# Altium footprint library 接口.PCBLIB: 266 footprints (part 14 of 17)
Each footprint in its own frame and in the unit in brackets; x right, y up, seen from the top. Pads: shape width x height; smd on the part's side, far side on the other; paste and mask are expansions set on the pad; w line width, h text height; cw(c..) or ccw(c..) is an arc to the next point about the centre after c.
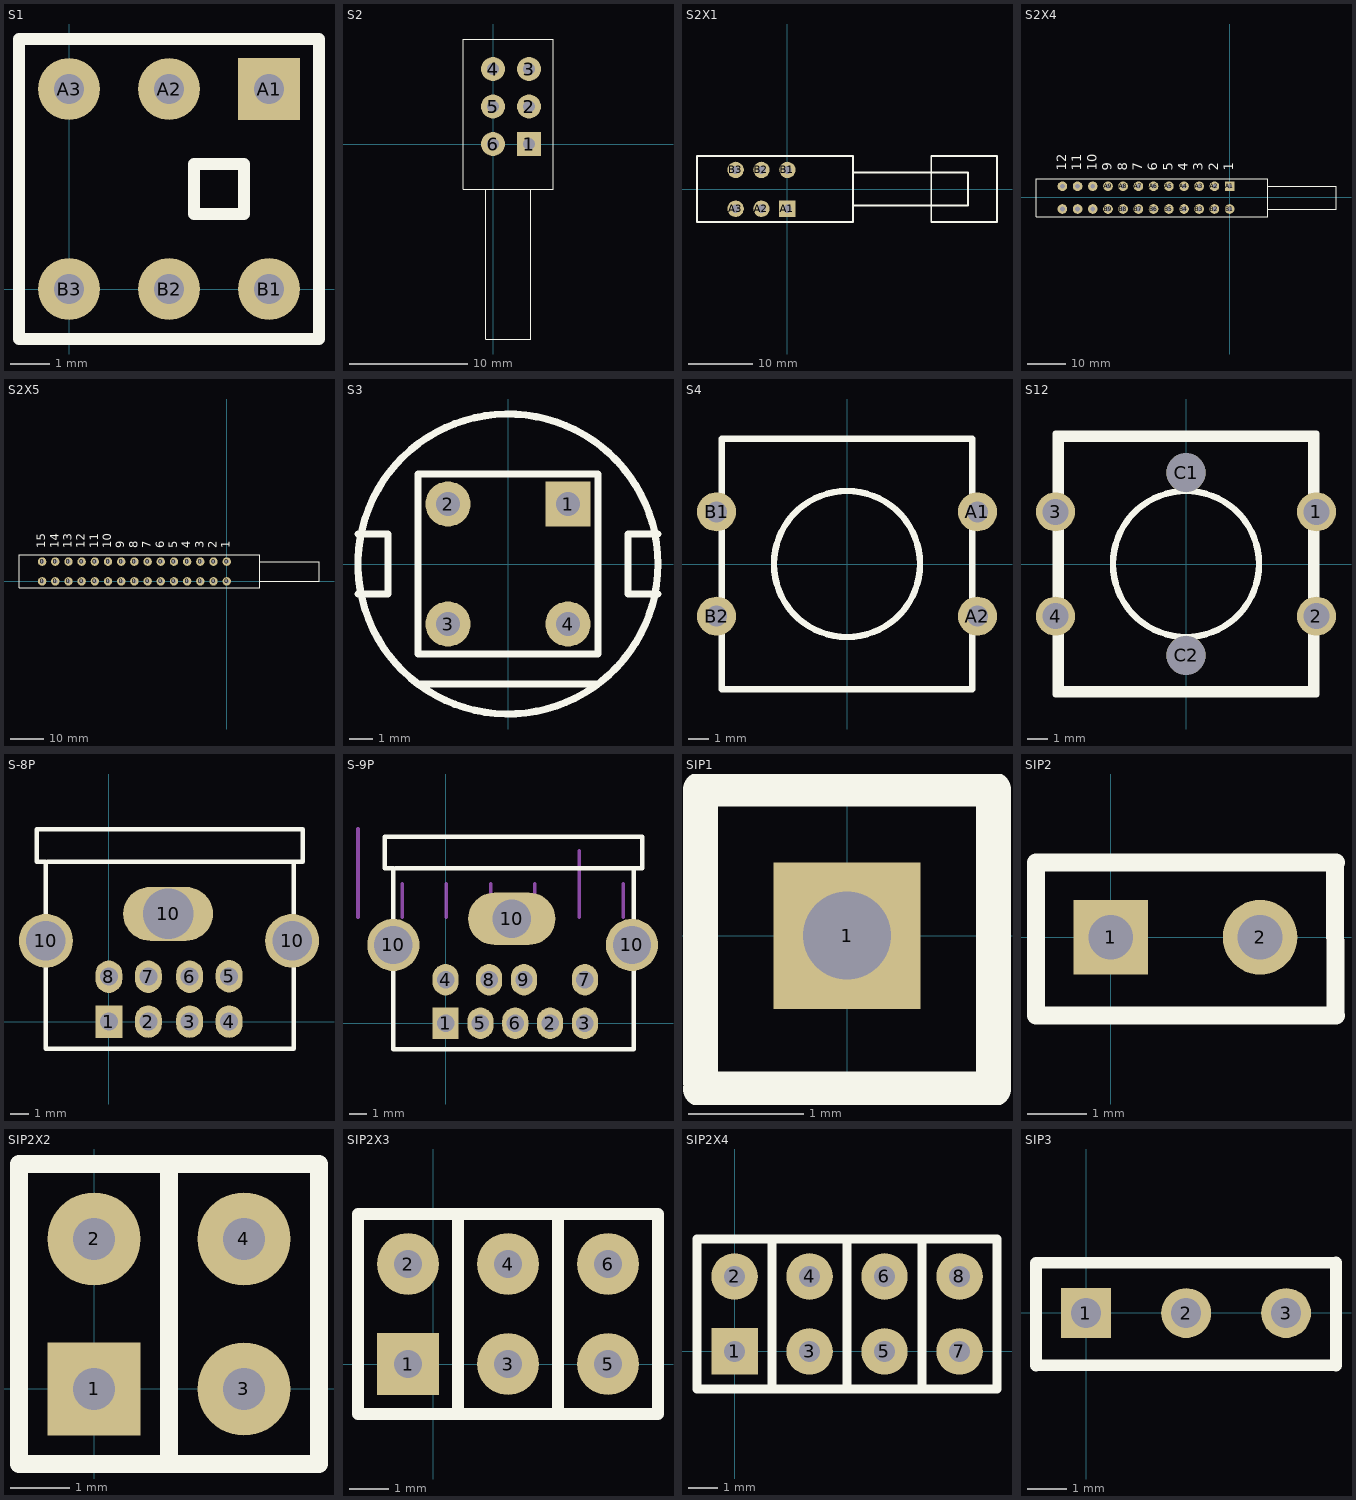
[diagram p13: the footprints below, top view; thin cyan lines are the x and y axes]

## S1 [mil]
pads (6):
  rect 62x62 hole 30: A1(200,200)
  round 62 hole 30: A2(100,200) A3(0,200) B1(200,0) B2(100,0) B3(0,0)
TopOverlay:
  lines w12: -50,-50 250,-50 250,250 -50,250 -50,-50 ; 125,75 175,75 175,125 125,125 125,75

## S2 [mil]
pads (6):
  rect 80x80 hole 40: 1(120,0)
  round 80 hole 40: 2(120,125) 3(120,250) 4(0,250) 5(0,125) 6(0,0)
TopOverlay:
  lines w4: -25,-150 -25,-650 125,-650 125,-150 ; -100,-150 -100,350 200,350 200,-150 -100,-150

## S2X1 [mil]
pads (6):
  rect 100x100 hole 50: A1(0,-120)
  round 100 hole 50: A2(-158,-120) A3(-315,-120) B1(0,116) B2(-158,116) B3(-315,116)
TopOverlay:
  lines w12: 400,-100 1100,-100 1100,100 400,100 ; -550,-200 -550,200 400,200 400,-200 -550,-200 ; 875,-200 1275,-200 1275,200 875,200 875,-200

## S2X4 [mil]
pads (24):
  rect 100x100 hole 50: A1(0,116)
  round 100 hole 50: A2(-158,116) A3(-315,116) A4(-473,116) A5(-630,116) A6(-788,116) A7(-945,116) A8(-1103,116) A9(-1260,116) A10(-1418,116) A11(-1575,116) A12(-1733,116) B1(0,-120) B2(-158,-120) B3(-315,-120) B4(-473,-120) B5(-630,-120) B6(-788,-120) B7(-945,-120) B8(-1103,-120) B9(-1260,-120) B10(-1418,-120) B11(-1575,-120) B12(-1733,-120)
TopOverlay:
  lines w12: 393,-120 1102,-120 1102,117 393,117 ; -2006,-199 393,-199 393,195 -2006,195 -2006,-199
  text "12" at -1693,274 h100
  text "11" at -1536,274 h100
  text "10" at -1378,274 h100
  text "9" at -1221,274 h100
  text "8" at -1063,274 h100
  text "7" at -906,274 h100
  text "6" at -748,274 h100
  text "5" at -591,274 h100
  text "4" at -433,274 h100
  text "3" at -276,274 h100
  text "2" at -118,274 h100
  text "1" at 39,274 h100

## S2X5 [mil]
pads (30):
  round 100 hole 50: 0(-2205,0) 0(-2205,236) 0(-2048,0) 0(-2048,236) 0(-1890,0) 0(-1890,236) 0(-1733,0) 0(-1733,236) 0(-1575,0) 0(-1575,236) 0(-1418,0) 0(-1418,236) 0(-1260,0) 0(-1260,236) 0(-1103,0) 0(-1103,236) 0(-945,0) 0(-945,236) 0(-788,0) 0(-788,236) 0(-630,0) 0(-630,236) 0(-473,0) 0(-473,236) 0(-315,0) 0(-315,236) 0(-158,0) 0(-158,236) 0(0,0) 0(0,236)
TopOverlay:
  lines w12: 393,0 1102,0 1102,237 393,237 ; -2481,-79 -2481,315 393,315 393,-79 -2481,-79
  text "1" at 39,394 h100
  text "2" at -118,394 h100
  text "3" at -276,394 h100
  text "4" at -433,394 h100
  text "5" at -591,394 h100
  text "6" at -748,394 h100
  text "7" at -906,394 h100
  text "8" at -1063,394 h100
  text "9" at -1221,394 h100
  text "10" at -1378,394 h100
  text "11" at -1536,394 h100
  text "12" at -1693,394 h100
  text "13" at -1851,394 h100
  text "14" at -2008,394 h100
  text "15" at -2166,394 h100

## S3 [mil]
pads (4):
  rect 75x75 hole 40: 1(100,100)
  round 75 hole 40: 2(-100,100) 3(-100,-100) 4(100,-100)
TopOverlay:
  circle w12: c0,0 r250
  lines w12: -250,-50 -200,-50 -200,50 -250,50 ; -150,-200 150,-200 ; 250,-50 200,-50 200,50 250,50 ; -150,-150 150,-150 150,150 -150,150 -150,-150

## S4 [mil]
pads (4):
  round 75 hole 40: A1(250,100) A2(250,-100) B1(-250,100) B2(-250,-100)
TopOverlay:
  circle w12: c0,0 r140
  lines w12: -240,-240 -240,240 240,240 240,-240 -240,-240

## S12 [mm]
pads (6):
  round 1.905 hole 1.27: 1(6.35,2.54) 2(6.35,-2.54) 3(-6.35,2.54) 4(-6.35,-2.54)
  round 1.905 hole 1.9: C1(0,4.445) C2(0,-4.445)
TopOverlay:
  circle w0.305: c0,0 r3.556
  lines w0.305: -6.35,-6.35 6.35,-6.35 6.35,6.35 -6.35,6.35 -6.35,-6.35 ; -6.096,-6.096 6.096,-6.096 6.096,6.096 -6.096,6.096 -6.096,-6.096

## S-8P [mm]
pads (11):
  rect 1.5x1.8 hole 1: 1(0,0)
  oval 1.5x1.8 hole 1: 2(2.2,0) 3(4.5,0) 4(6.7,0) 5(6.7,2.525) 6(4.5,2.5) 7(2.2,2.5) 8(0,2.5)
  oval 3x2.997 hole 2.2: 10(-3.5,4.5)
  oval 5x3 hole 2.8: 10(3.3,6)
  round 2.997 hole 2.2: 10(10.2,4.5)
TopOverlay:
  lines w0.254: -3.4,8.9 10.3,8.9 ; 10.3,8.9 10.3,-1.5 -3.5,-1.5 -3.5,8.9 -4,8.9 -4,10.7 10.8,10.7 10.8,8.9 10.3,8.9

## S-9P [mm]
pads (12):
  rect 1.5x1.8 hole 1: 1(0,0)
  oval 1.5x1.8 hole 1: 2(6,0) 3(8,0) 4(0,2.5) 5(2,0) 6(4,0) 7(8,2.5) 8(2.5,2.5) 9(4.5,2.5)
  oval 3x2.997 hole 2.2: 10(-3,4.5)
  oval 5x3 hole 2.2: 10(3.8,6)
  round 2.997 hole 2.2: 10(10.7,4.5)
TopOverlay:
  lines w0.254: -2.9,8.9 10.8,8.9 ; 10.8,8.9 10.8,-1.5 -3,-1.5 -3,8.9 -3.5,8.9 -3.5,10.7 11.3,10.7 11.3,8.9 10.8,8.9
Mechanical4:
  lines w0.203: -5.032,6.098 -5.032,11.178 ; -2.492,6.098 -2.492,8.003 ; 0.048,6.098 0.048,8.003 ; 2.588,6.098 2.588,8.003 ; 5.128,6.098 5.128,8.003 ; 7.668,6.098 7.668,9.908 ; 10.208,6.098 10.208,8.003

## SIP1 [mil]
pads (1):
  rect 50x50 hole 30: 1(0,0)
TopOverlay:
  lines w12: -50,-52.36 50,-52.36 50,50 -50,50 -50,-50

## SIP2 [mil]
pads (2):
  rect 50x50 hole 30: 1(0,0)
  round 50 hole 30: 2(100,0)
TopOverlay:
  lines w12: -50,-52.36 150.79,-52.36 ; -50,-50 -50,50 150.79,50 ; 150,50 150.39,-52.36

## SIP2X2 [mil]
pads (4):
  rect 62x62 hole 28: 1(0,0)
  round 62 hole 28: 2(0,100) 3(100,0) 4(100,100)
TopOverlay:
  lines w12: 50,-50 50,150 ; -50,-50 150,-50 150,150 -50,150 -50,-50

## SIP2X3 [mil]
pads (6):
  rect 62x62 hole 28: 1(-25,0)
  round 62 hole 28: 2(-25,100) 3(75,0) 4(75,100) 5(175,0) 6(175,100)
TopOverlay:
  lines w12: 25,-50 25,150 ; 125,-50 125,150 ; -75,-50 -75,150 225,150 225,-50 -75,-50

## SIP2X4 [mil]
pads (8):
  rect 62x62 hole 28: 1(0,0)
  round 62 hole 28: 2(0,100) 3(100,0) 4(100,100) 5(200,0) 6(200,100) 7(300,0) 8(300,100)
TopOverlay:
  lines w12: 50,-50 50,150 ; 150,-50 150,150 ; 250,-50 250,150 ; -50,-50 350,-50 350,150 -50,150 -50,-50

## SIP3 [mm]
pads (3):
  rect 1.27x1.27 hole 0.762: 1(-0.01,-0.01)
  round 1.27 hole 0.762: 2(2.54,-0.01) 3(5.08,-0.01)
TopOverlay:
  lines w0.305: -1.28,-1.34 6.35,-1.33 ; -1.28,-1.28 -1.28,1.26 6.35,1.27 6.35,-1.34